# Altium footprint library Arduino.PcbLib: 15 footprints
Each footprint in its own frame and in the unit in brackets; x right, y up, seen from the top. Pads: shape width x height; smd on the part's side, far side on the other; paste and mask are expansions set on the pad; w line width, h text height; cw(c..) or ccw(c..) is an arc to the next point about the centre after c.
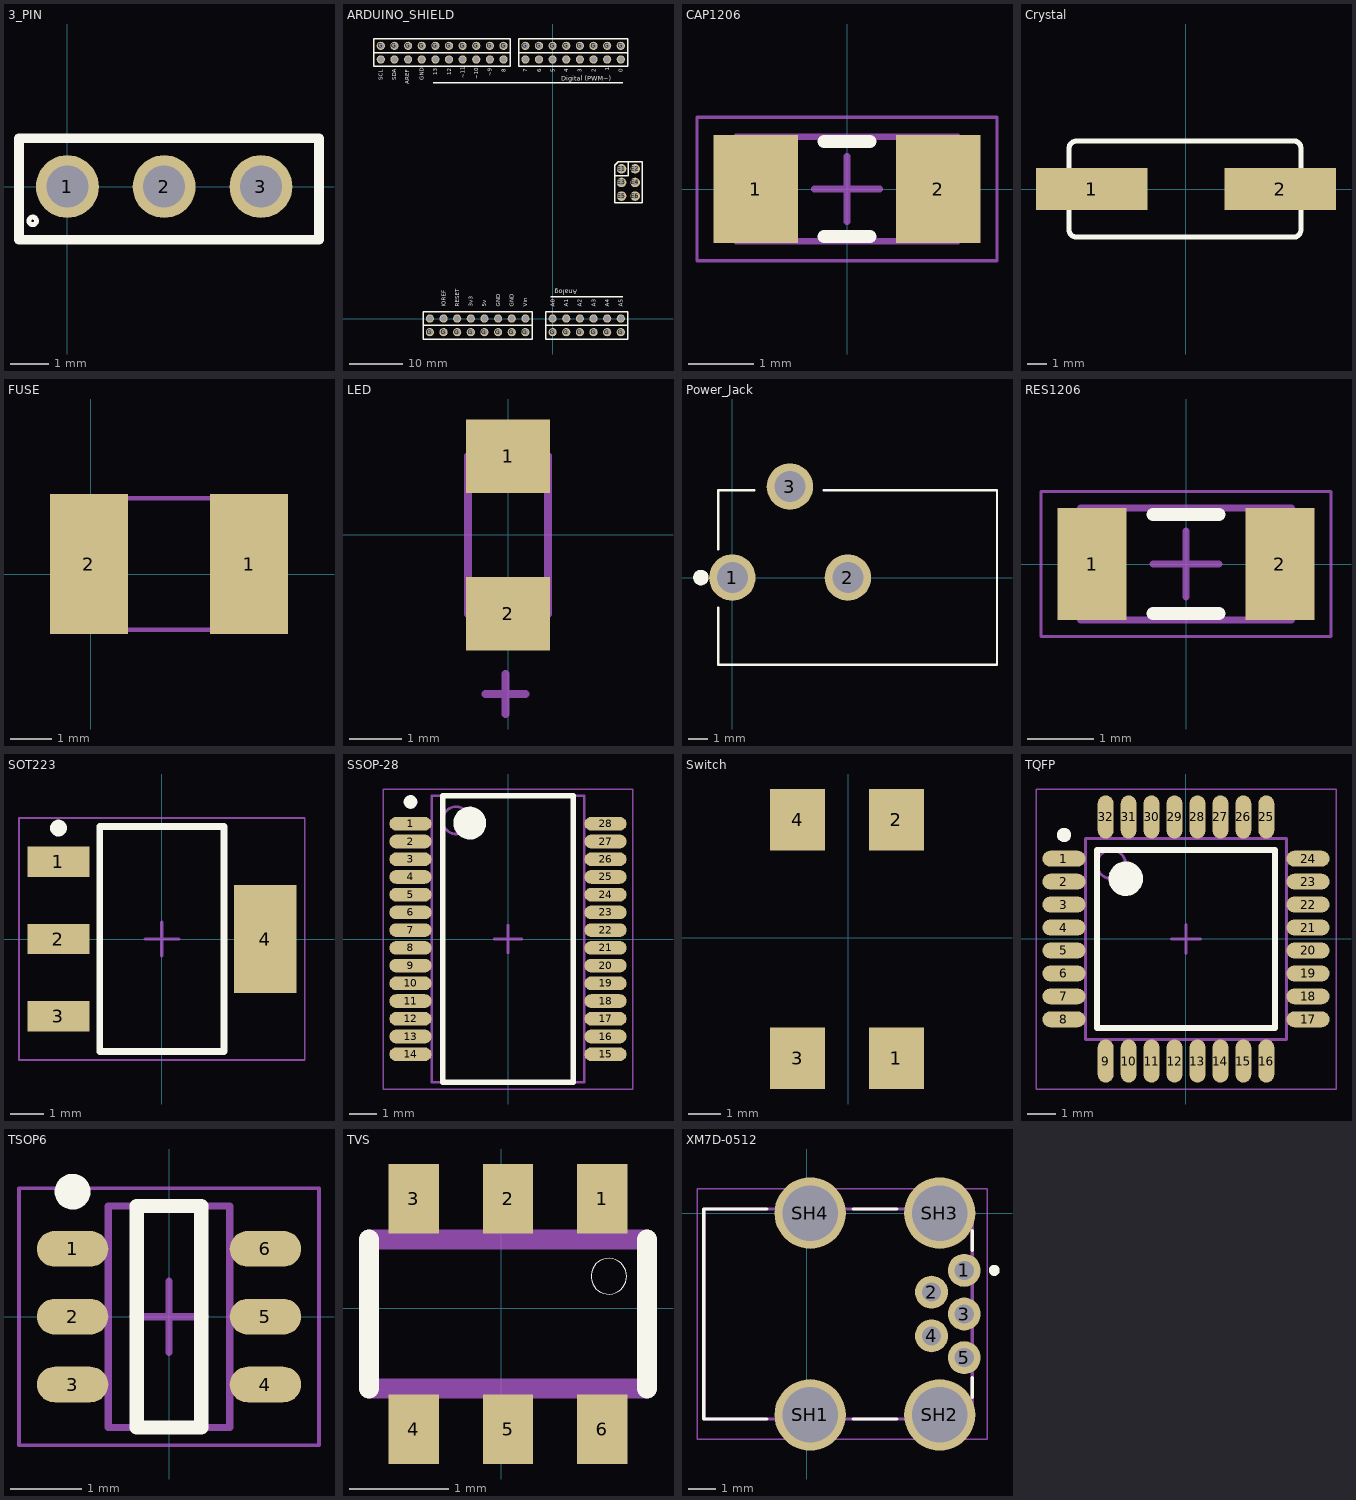
[diagram p0: the footprints below, top view; thin cyan lines are the x and y axes]

## 3_PIN [mm]
pads (3):
  round 1.65 hole 1.1: 1(0,0) 2(2.54,0) 3(5.08,0)
Top Overlay:
  circle w0.127: c-0.91,-0.9 r0.1
  lines w0.254: -1.27,-1.397 6.604,-1.397 6.604,1.27 -1.27,1.27 -1.27,-1.397
3D body "PREC003SAAN-RC.step": height 8.36, standoff -3.03, extent -1.279,-1.27 6.341,1.27

## ARDUINO_SHIELD [mil]
pads (70):
  round 60 hole 43.31: A1(0,0) A2(100,0) A3(200,0) A4(300,0) A5(400,0) A6(500,0) B1(-200,0) B2(-300,0) B3(-400,0) B4(-500,0) B5(-600,0) B6(-700,0) B7(-800,0) B8(-900,0) C1(500,1900) C2(400,1900) C3(300,1900) C4(200,1900) C5(100,1900) C6(0,1900) C7(-100,1900) C8(-200,1900) D1(-360,1900) D2(-460,1900) D3(-560,1900) D4(-660,1900) D5(-760,1900) D6(-860,1900) D7(-960,1900) D8(-1060,1900) D9(-1160,1900) D10(-1260,1900) G(-1260,2000) G(-1160,2000) G(-1060,2000) G(-960,2000) G(-900,-100) G(-860,2000) G(-800,-100) G(-760,2000) G(-700,-100) G(-660,2000) G(-600,-100) G(-560,2000) G(-500,-100) G(-460,2000) G(-400,-100) G(-360,2000) G(-300,-100) G(-200,-100) G(-200,2000) G(-100,2000) G(0,-100) G(0,2000) G(100,-100) G(100,2000) G(200,-100) G(200,2000) G(300,-100) G(300,2000) G(400,-100) G(400,2000) G(500,-100) G(500,2000)
  round 70 hole 43.31: E1(505.51,1098.03) E2(605.51,1098.03) E3(505.51,998.03) E4(605.51,998.03) E5(505.51,898.03) E6(605.51,898.03)
Top Overlay:
  lines w10: -875,1730 515,1730 ; -15,160 515,160 ; 455.51,1048.03 555.51,1048.03 555.51,1148.03 ; -1310,1950 -1310,1850 -410,1850 -310,1850 -310,1950 ; -1310,1950 -410,1950 -310,1950 ; -1310,1950 -1310,2050 -410,2050 -310,2050 -310,1950 ; -950,-50 -950,50 -150,50 -150,-50 ; -950,-50 -150,-50 ; -950,-50 -950,-150 -150,-150 -150,-50 ; -250,1950 -250,1850 550,1850 550,1950 ; -250,1950 550,1950 ; -250,1950 -250,2050 550,2050 550,1950 ; -50,-50 -50,0 -50,50 50,50 550,50 550,-50 ; -50,-50 50,-50 550,-50 ; -50,-50 -50,-100 -50,-150 50,-150 550,-150 550,-50 ; 455.51,848.03 655.51,848.03 655.51,1148.03 480.51,1148.03 455.51,1123.03 455.51,848.03
  text "A5" at 515,85 h30
  text "A4" at 415,85 h30
  text "A3" at 315,85 h30
  text "A2" at 215,85 h30
  text "A0" at 15,85 h30
  text "A1" at 115,85 h30
  text "0" at 515,1808 h30
  text "1" at 415,1818 h30
  text "2" at 315,1808 h30
  text "3" at 215,1808 h30
  text "4" at 115,1808 h30
  text "5" at 15,1808 h30
  text "6" at -85,1808 h30
  text "IOREF" at -785,85 h30
  text "RESET" at -685,85 h30
  text "3v3" at -585,85 h30
  text "5v" at -485,85 h30
  text "GND" at -385,85 h30
  text "GND" at -285,85 h30
  text "Vin" at -185,85 h30
  text "8" at -345,1808 h30
  text "~9" at -445,1778 h30
  text "~10" at -545,1753 h30
  text "~11" at -645,1763 h30
  text "12" at -745,1783 h30
  text "13" at -845,1783 h30
  text "GND" at -945,1748 h30
  text "AREF" at -1050,1718 h30
  text "SDA" at -1145,1748 h30
  text "SCL" at -1245,1748 h30
  text "7" at -185,1808 h30
  text "Digital (PWM~)" at 65,1745 h36
  text "Analog" at 180,210 h36
3D body "PPTC061LFBN-RC.step": height 335.83, standoff -124.8, extent -60.04,-50 559.65,50
3D body "PPTC081LFBN-RC.step": height 335.83, standoff -124.8, extent -260,1850.79 559.68,1950.79
3D body "PPTC081LFBN-RC.step": height 335.83, standoff -124.8, extent -960,-49.21 -140.32,50.79
3D body "PPTC101LFBN-RC.step": height 335.83, standoff -124.8, extent -1319.45,1849.34 -299.76,1949.34
3D body "PREC003DAAN-RC.step": height 329.09, standoff -119.29, extent 456.9,847.44 653.75,1147.44

## CAP1206 [mm] "Chip Capacitor, 2-Leads, Body 3.20x1.50mm, IPC Medium Density"
height 0.56
pads (2):
  rect 1.3x1.65 smd: 1(-1.4,0) 2(1.4,0)
Top Overlay:
  lines w0.2: -0.35,-0.725 0.35,-0.725 ; -0.35,0.725 0.35,0.725
Mechanical 13:
  lines w0.1: -1.7,-0.8 -1.7,0.8 1.7,0.8 1.7,-0.8 -1.7,-0.8
Mechanical 15:
  lines w0.05: -2.3,-1.1 -2.3,1.1 2.3,1.1 2.3,-1.1 -2.3,-1.1
  lines w0.1: -0.5,0 0.5,0 ; 0,-0.5 0,0.5
3D body "CAPC3215X06N.step": height 0.56, standoff 0, extent -1.7,-0.8 1.7,0.8

## Crystal [mm]
pads (2):
  rect 5.6x2.1 smd: 1(-4.75,0) 2(4.75,0)
Top Overlay:
  lines w0.254: -5.893,-2.038 -5.893,2.038 ; -5.893,-2.032 ccw(c-5.506,-2.038) -5.512,-2.425 5.41,-2.425 ; -5.893,2.032 cw(c-5.512,2.032) -5.512,2.413 ; -5.512,2.425 5.41,2.425 cw(c5.404,2.038) 5.791,2.032 5.791,-2.038 cw(c5.404,-2.038) 5.404,-2.425
3D body "User Library-ABLS2.STEP": height 4, standoff 0, extent -6.701,-2.425 6.599,2.425

## FUSE [mm]
pads (2):
  rect 1.9x3.4 smd: 1(3.855,0.254) 2(-0.045,0.254)
Mechanical 4:
  region: 4.295,-1.395 3.343,-1.395 3.343,1.906 4.295,1.906
  region: 0.455,-1.395 -0.493,-1.395 -0.493,1.907 0.455,1.907
  region: 4.295,-1.395 3.343,-1.395 3.343,1.906 4.295,1.906
  region: 0.455,-1.395 -0.493,-1.395 -0.493,1.907 0.455,1.907
  lines w0.102: 0.432,-1.346 3.378,-1.346 0.432,-1.346 ; 0.432,1.854 3.353,1.854 0.432,1.854
3D body "MF-MSMF050-2.step": height 0.68, standoff -0.02, extent -0.375,-1.37 4.175,1.87

## LED [mil]
pads (2):
  rect 63x55 smd: 1(0,59) 2(0,-59)
Mechanical 4:
  lines w6: -30,-59 -30,59 ; -30,-59 30,-59 ; -30,-59 -30,59 ; -30,-59 30,-59 ; -30,59 30,59 ; -30,59 30,59 ; 30,-59 30,59 ; 30,-59 30,59 ; -17,-119 13,-119 -17,-119 ; -2,-134 -2,-104 -2,-134
3D body "LTST-C150CKT.step": height 43.7, standoff 0, extent -31.5,-62.99 31.5,63

## Power_Jack [mm]
pads (3):
  round 2.4 hole 1.6: 1(0,0) 2(5.969,0) 3(2.977,4.7)
Top Overlay:
  circle w0.4: c-1.623,0 r0.2
  lines w0.127: -0.723,-1.55 -0.723,-4.5 13.677,-4.5 13.677,4.5 4.727,4.5 ; -0.723,1.45 -0.723,4.5 1.127,4.5
  lines w0.254: 5.969,0 5.977,0
3D body "DC Power Jack 5.5mm x 2.1mm.STEP": height 10.68, standoff -3.7, extent -0.465,-4.49 14.155,5.28

## RES1206 [mm] "Chip Resistor, 2-Leads, Body 3.10x1.60mm, IPC Medium Density"
height 0.65
pads (2):
  rect 1.05x1.7 smd: 1(-1.425,0) 2(1.425,0)
Top Overlay:
  lines w0.2: -0.5,-0.75 0.5,-0.75 ; -0.5,0.75 0.5,0.75
Mechanical 13:
  lines w0.1: -1.6,-0.85 1.6,-0.85 1.6,0.85 -1.6,0.85 -1.6,-0.85
Mechanical 15:
  lines w0.05: -2.2,-1.1 2.2,-1.1 2.2,1.1 -2.2,1.1 -2.2,-1.1
  lines w0.1: -0.5,0 0.5,0 ; 0,-0.5 0,0.5
3D body "RESC3116X06N.step": height 0.65, standoff 0, extent -1.6,-0.85 1.6,0.85

## SOT223 [mm] "SOT223, 4-Leads, Body 6.50x7.00mm (avg), Pitch 2.30mm, IPC Medium Density"
height 1.8
pads (4):
  rect 1.85x0.9 smd: 1(-3.075,2.3) 2(-3.075,0) 3(-3.075,-2.3)
  rect 1.85x3.2 smd: 4(3.075,0)
Top Overlay:
  circle w0.25: c-3.075,3.3 r0.125
  lines w0.2: -1.85,-3.35 1.85,-3.35 1.85,3.35 -1.85,3.35 -1.85,-3.35
Mechanical 13:
  lines w0.1: -1.85,-3.35 1.85,-3.35 1.85,3.35 -1.85,3.35 -1.85,-3.35
Mechanical 15:
  lines w0.05: -4.25,-3.6 4.25,-3.6 4.25,3.6 -4.25,3.6 -4.25,-3.6
  lines w0.1: -0.5,0 0.5,0 ; 0,-0.5 0,0.5
3D body "SOT230P700X180-4N.step": height 1.8, standoff 0, extent -3.5,-3.35 3.5,3.35

## SSOP-28 [mm] "SOP, 28-Leads, Body 10.28x5.30mm, Pitch 0.65mm, IPC Medium Density"
height 2
pads (28):
  oval 1.55x0.5 smd mask+0.051: 1(-3.575,4.225) 2(-3.575,3.575) 3(-3.575,2.925) 4(-3.575,2.275) 5(-3.575,1.625) 6(-3.575,0.975) 7(-3.575,0.325) 8(-3.575,-0.325) 9(-3.575,-0.975) 10(-3.575,-1.625) 11(-3.575,-2.275) 12(-3.575,-2.925) 13(-3.575,-3.575) 14(-3.575,-4.225) 15(3.575,-4.225) 16(3.575,-3.575) 17(3.575,-2.925) 18(3.575,-2.275) 19(3.575,-1.625) 20(3.575,-0.975) 21(3.575,-0.325) 22(3.575,0.325) 23(3.575,0.975) 24(3.575,1.625) 25(3.575,2.275) 26(3.575,2.925) 27(3.575,3.575) 28(3.575,4.225)
Top Overlay:
  circle w0.6: c-1.4,4.25 r0.3
  circle w0.25: c-3.575,5.025 r0.125
  lines w0.2: -2.4,-5.25 2.4,-5.25 2.4,5.25 -2.4,5.25 -2.4,-5.25
Mechanical 13:
  circle w0.1: c-1.9,4.35 r0.5
  lines w0.1: -2.8,-5.25 2.8,-5.25 2.8,5.25 -2.8,5.25 -2.8,-5.25
Mechanical 15:
  lines w0.05: -4.575,-5.5 4.575,-5.5 4.575,5.5 -4.575,5.5 -4.575,-5.5
  lines w0.1: -0.5,0 0.5,0 ; 0,-0.5 0,0.5
3D body "SSOP-28.step": height 2, standoff 0, extent -3.888,-5.25 3.888,5.25

## Switch [mm]
pads (4):
  rect 1.7x1.9 smd: 1(1.479,-3.727) 2(1.479,3.639) 3(-1.569,-3.727) 4(-1.569,3.639)
3D body "TL3305AF160QG.step": height 3.8, standoff 0, extent -2.3,-3.75 2.2,3.75

## TQFP [mm] "TQFP, 32-Leads, Body 7.00x7.00mm, Pitch 0.80mm, IPC Medium Density"
height 1.2
pads (32):
  oval 1.5x0.55 smd mask+0.102: 1(-4.25,2.8) 2(-4.25,2) 3(-4.25,1.2) 4(-4.25,0.4) 5(-4.25,-0.4) 6(-4.25,-1.2) 7(-4.25,-2) 8(-4.25,-2.8) 17(4.25,-2.8) 18(4.25,-2) 19(4.25,-1.2) 20(4.25,-0.4) 21(4.25,0.4) 22(4.25,1.2) 23(4.25,2) 24(4.25,2.8)
  oval 0.55x1.5 smd mask+0.102: 9(-2.8,-4.25) 10(-2,-4.25) 11(-1.2,-4.25) 12(-0.4,-4.25) 13(0.4,-4.25) 14(1.2,-4.25) 15(2,-4.25) 16(2.8,-4.25) 25(2.8,4.25) 26(2,4.25) 27(1.2,4.25) 28(0.4,4.25) 29(-0.4,4.25) 30(-1.2,4.25) 31(-2,4.25) 32(-2.8,4.25)
Top Overlay:
  circle w0.25: c-4.25,3.625 r0.125
  circle w0.6: c-2.1,2.1 r0.3
  lines w0.2: -3.1,-3.1 -3.1,3.1 3.1,3.1 3.1,-3.1 -3.1,-3.1
Mechanical 13:
  circle w0.1: c-2.6,2.6 r0.5
  lines w0.1: -3.5,-3.5 -3.5,3.5 3.5,3.5 3.5,-3.5 -3.5,-3.5
Mechanical 15:
  lines w0.05: -5.225,-5.225 -5.225,5.225 5.225,5.225 5.225,-5.225 -5.225,-5.225
  lines w0.1: -0.5,0 0.5,0 ; 0,-0.5 0,0.5
3D body "TQFP.step": height 1.2, standoff 0, extent -4.5,-4.5 4.5,4.5

## TSOP6 [mm] "TSOP, 6-Leads, Body 2.90x1.50mm, Pitch 0.95mm, IPC Medium Density"
height 1.1
pads (6):
  oval 1x0.5 smd: 1(-1.35,0.95) 2(-1.35,0) 3(-1.35,-0.95) 4(1.35,-0.95) 5(1.35,0) 6(1.35,0.95)
Top Overlay:
  circle w0.25: c-1.35,1.75 r0.125
  lines w0.2: -0.45,-1.55 -0.45,1.55 0.45,1.55 0.45,-1.55 -0.45,-1.55
Mechanical 13:
  lines w0.1: -0.85,-1.55 -0.85,1.55 0.85,1.55 0.85,-1.55 -0.85,-1.55
Mechanical 15:
  lines w0.05: -2.1,-1.8 -2.1,1.8 2.1,1.8 2.1,-1.8 -2.1,-1.8
  lines w0.1: -0.5,0 0.5,0 ; 0,-0.5 0,0.5
3D body "TSOP6.step": height 1.1, standoff 0, extent -1.375,-1.55 1.375,1.55

## TVS [mm]
pads (6):
  rect 0.508x0.7 smd: 1(1.02,1.105) 2(0.07,1.105) 3(-0.88,1.105) 4(-0.88,-1.219) 5(0.07,-1.219) 6(1.02,-1.219)
Top Overlay:
  circle w0: c1.086,0.324 r0.18
  lines w0.203: -1.33,-0.807 -1.33,0.693 ; 1.47,-0.807 1.47,0.693
Mechanical 4:
  region: -1.03,-0.857 -0.73,-0.857 -0.73,-1.482 -1.03,-1.482
  region: -0.73,0.743 -1.03,0.743 -1.03,1.368 -0.73,1.368
  region: -0.08,-0.857 0.22,-0.857 0.22,-1.482 -0.08,-1.482
  region: 0.22,0.743 -0.08,0.743 -0.08,1.368 0.22,1.368
  region: 0.87,-0.857 1.17,-0.857 1.17,-1.482 0.87,-1.482
  region: 1.17,0.743 0.87,0.743 0.87,1.368 1.17,1.368
  region: -1.03,-0.857 -0.73,-0.857 -0.73,-1.482 -1.03,-1.482
  region: -0.73,0.743 -1.03,0.743 -1.03,1.368 -0.73,1.368
  region: -0.08,-0.857 0.22,-0.857 0.22,-1.482 -0.08,-1.482
  region: 0.22,0.743 -0.08,0.743 -0.08,1.368 0.22,1.368
  region: 0.87,-0.857 1.17,-0.857 1.17,-1.482 0.87,-1.482
  region: 1.17,0.743 0.87,0.743 0.87,1.368 1.17,1.368
  lines w0.203: -1.33,-0.807 1.47,-0.807 -1.33,-0.807 ; -1.33,0.693 1.47,0.693 -1.33,0.693

## XM7D-0512 [mm]
pads (9):
  round 1.208 hole 0.7: 1(5.777,-2.1) 2(4.577,-2.9) 3(5.777,-3.7) 4(4.577,-4.5) 5(5.777,-5.3)
  round 2.616 hole 2.032: SH1(0.127,-7.4) SH2(4.877,-7.4) SH3(4.877,0) SH4(0.127,0)
Top Overlay:
  circle w0.2: c6.877,-2.1 r0.1
  lines w0.127: -1.463,-7.55 -3.773,-7.55 -3.773,0.15 -1.463,0.15 ; 1.697,-7.55 3.307,-7.55 ; 1.697,0.15 3.307,0.15 ; 6.077,-6.76 6.077,-6.03 ; 6.077,-1.36 6.077,-0.65
Mechanical 1:
  lines w0: -0.823,-7.8 -0.823,-7 1.077,-7 1.077,-7.8 -0.823,-7.8 ; -0.823,-0.4 -0.823,0.4 1.077,0.4 1.077,-0.4 -0.823,-0.4 ; 3.927,-7.8 3.927,-7 5.827,-7 5.827,-7.8 3.927,-7.8 ; 3.927,-0.4 3.927,0.4 5.827,0.4 5.827,-0.4 3.927,-0.4
Mechanical 4:
  lines w0.127: -3.773,-7.55 -3.773,0.15 ; -3.773,-7.55 6.077,-7.55 ; -3.773,-7.55 -3.773,0.15 ; -3.773,-7.55 6.077,-7.55 ; -3.773,0.15 6.077,0.15 ; -3.773,0.15 6.077,0.15 ; 6.077,-7.55 6.077,0.15 ; 6.077,-7.55 6.077,0.15
Mechanical 16:
  lines w0.05: -4.023,-8.3 6.627,-8.3 6.627,0.9 -4.023,0.9 -4.023,-8.3
3D body "XM7D-0512.STEP": height 3.95, standoff -1.95, extent -3.8,-7.75 6.05,0.35